# Altium schematic symbol library Lab10.SchLib: 16 symbols
Pins are listed as number, name and electrical type; pins without a type are passive.

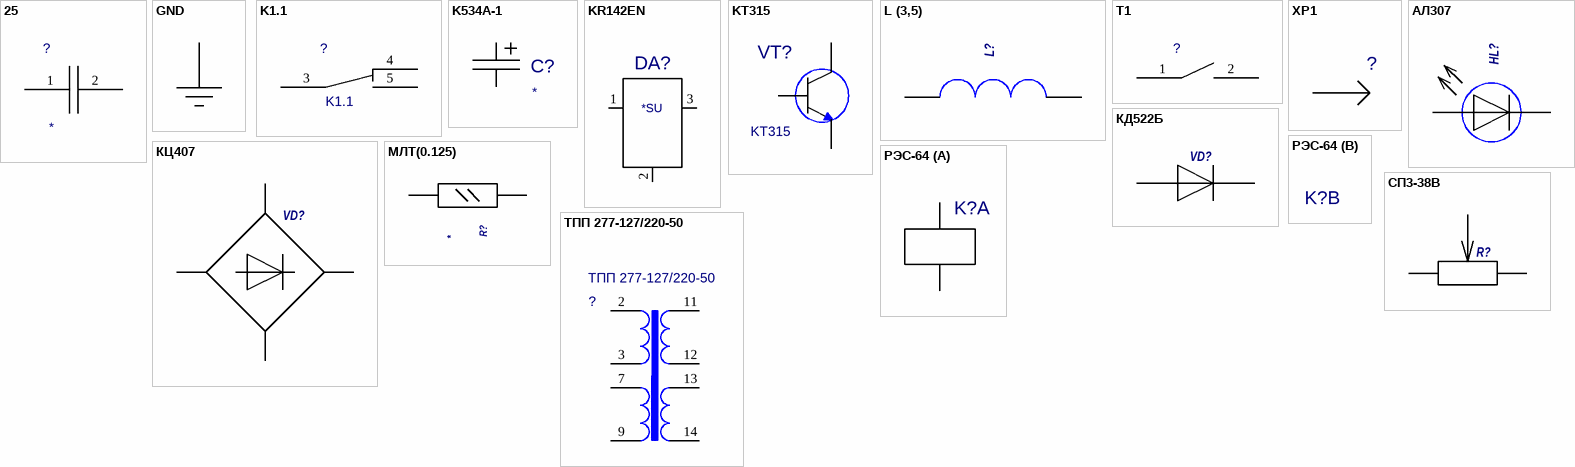
[diagram p0: symbols 25 to ТПП 277-127/220-50]

## 25
designator ?  (value not drawn)
Value: *
footprint KM6A - M47
pins: 1, 2

## GND
designator GND?  (value not drawn)
Value: *
pins: 1 GND (power)

## K1.1
designator ?
Value: *
footprint K1.1
pins: 3, 4, 5

## K534A-1
designator C?  (value not drawn)
Value: *
footprint K534A-1
pins: 1 I/OA, 2 I/OB

## KR142EN
designator DA?  (value not drawn)
Value: *
footprint KR142EN
pins: 1 IN0, 2 GND0, 3 OUT0
text: *SU

## KT315
designator VT?
Value: *
footprint KT-13
pins: 1 E, 2 K, 3 B

## L (3,5)
designator L?  (value not drawn)
Value: *
footprint L (3,5)
pins: 1, 2

## T1
designator ?  (value not drawn)
Value: *
footprint T1
pins: 1, 2

## XP1
designator ?  (value not drawn)
Value: *
footprint PAD
pins: 1 A1

## АЛ307
designator HL?  (value not drawn)
Value: *
footprint АЛ307
pins: 1, 2

## КД522Б
designator VD?  (value not drawn)
Value: *
footprint КД522
pins: 1, 2

## КЦ407
designator VD?  (value not drawn)
Value: *
footprint КЦ407
pins: 1, 2, 3, 4 hidden, 5 4, 6 hidden

## МЛТ(0.125)
designator R?  (value not drawn)
Value: *
footprint МЛТ(0.125)
pins: 1, 2

## РЭС-64
designator K?  (value not drawn)
Value: *
footprint RES64
pins on every part: 5 hidden
part A pins: 1 I/O1, 2 I/O2

## СП3-38В
designator R?  (value not drawn)
Value: *
footprint СП3-38В
pins: 1, 2, 3

## ТПП 277-127/220-50
designator ?
Value: *
footprint ТПП 277-127/220-50
pins: 2, 3, 7, 9, 11, 12, 13, 14